# EAGLE library part AD7768 (library AD7768)
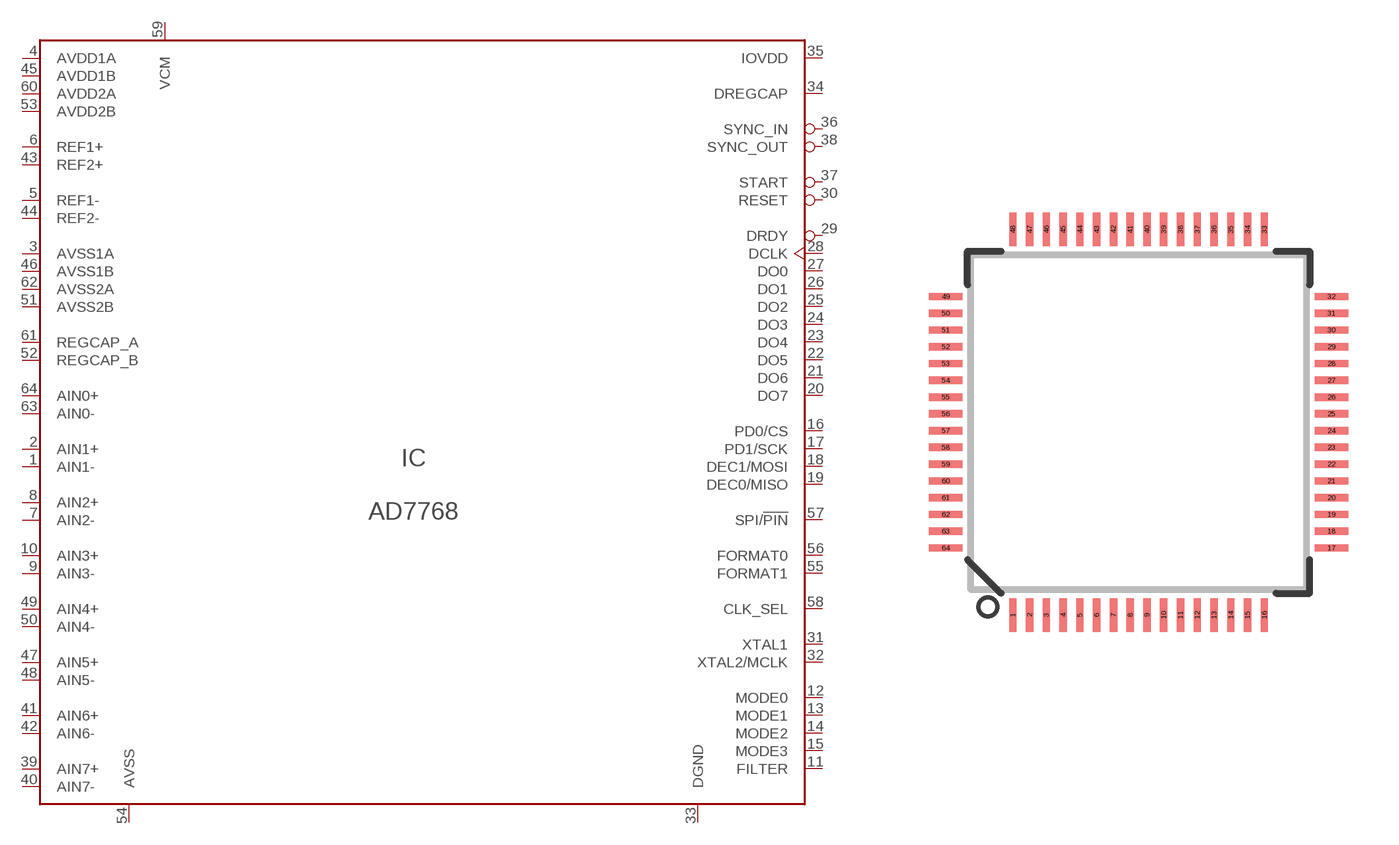
[diagram p0: symbol with the pads of TQFP64; footprint TQFP64]

Designator prefix IC

## AD7768  [TQFP64]
1  AIN1-  in
2  AIN1+  in
3  AVSS1A  pwr
4  AVDD1A  pwr
5  REF1-  in
6  REF1+  in
7  AIN2-  in
8  AIN2+  in
9  AIN3-  in
10  AIN3+  in
11  FILTER
12  MODE0
13  MODE1
14  MODE2
15  MODE3
16  PD0/CS
17  PD1/SCK
18  DEC1/MOSI
19  DEC0/MISO
20  DO7  out
21  DO6  out
22  DO5  out
23  DO4  out
24  DO3  out
25  DO2  out
26  DO1  out
27  DO0  out
28  DCLK  out
29  DRDY  out
30  RESET  in
31  XTAL1
32  XTAL2/MCLK
33  DGND  pwr
34  DREGCAP
35  IOVDD  pwr
36  SYNC_IN  in
37  START  in
38  SYNC_OUT  out
39  AIN7+  in
40  AIN7-  in
41  AIN6+  in
42  AIN6-  in
43  REF2+  in
44  REF2-  in
45  AVDD1B  pwr
46  AVSS1B  pwr
47  AIN5+  in
48  AIN5-  in
49  AIN4+  in
50  AIN4-  in
51  AVSS2B  pwr
52  REGCAP_B
53  AVDD2B  pwr
54  AVSS  pwr
55  FORMAT1  in
56  FORMAT0  in
57  SPI/!PIN
58  CLK_SEL  in
59  VCM  out
60  AVDD2A  pwr
61  REGCAP_A
62  AVSS2A  pwr
63  AIN0-  in
64  AIN0+  in

## Footprint TQFP64 (pad centres in mm)
64-Lead TQFP Plastic Thin Quad Flatpack - 10x10x1mm Body, 2mmFP
smd 0.22 x 1: 1 -3.75,-5.75; 2 -3.25,-5.75; 3 -2.75,-5.75; 4 -2.25,-5.75; 5 -1.75,-5.75; 6 -1.25,-5.75; 7 -0.75,-5.75; 8 -0.25,-5.75; 9 0.25,-5.75; 10 0.75,-5.75; 11 1.25,-5.75; 12 1.75,-5.75; 13 2.25,-5.75; 14 2.75,-5.75; 15 3.25,-5.75; 16 3.75,-5.75; 33 3.75,5.75; 34 3.25,5.75; 35 2.75,5.75; 36 2.25,5.75; 37 1.75,5.75; 38 1.25,5.75; 39 0.75,5.75; 40 0.25,5.75; 41 -0.25,5.75; 42 -0.75,5.75; 43 -1.25,5.75; 44 -1.75,5.75; 45 -2.25,5.75; 46 -2.75,5.75; 47 -3.25,5.75; 48 -3.75,5.75
smd 1 x 0.22: 17 5.75,-3.75; 18 5.75,-3.25; 19 5.75,-2.75; 20 5.75,-2.25; 21 5.75,-1.75; 22 5.75,-1.25; 23 5.75,-0.75; 24 5.75,-0.25; 25 5.75,0.25; 26 5.75,0.75; 27 5.75,1.25; 28 5.75,1.75; 29 5.75,2.25; 30 5.75,2.75; 31 5.75,3.25; 32 5.75,3.75; 49 -5.75,3.75; 50 -5.75,3.25; 51 -5.75,2.75; 52 -5.75,2.25; 53 -5.75,1.75; 54 -5.75,1.25; 55 -5.75,0.75; 56 -5.75,0.25; 57 -5.75,-0.25; 58 -5.75,-0.75; 59 -5.75,-1.25; 60 -5.75,-1.75; 61 -5.75,-2.25; 62 -5.75,-2.75; 63 -5.75,-3.25; 64 -5.75,-3.75